# EAGLE library part HLE-108-02-L-DV-A (library Buchsenleiste - Samtec 8Pol)
Name des Bauteiles: -->SMD-Buchsenleiste 2 x 8polig Daten:RM 2,54 / von oben steckbar , Samtec: HLE - 108 - 02 - L - DV - A Artikelnummer:#135139 Datenblatt:www.alldatasheet.com __________________________________________ generated by Eagle Description Tool am : 07.02.2014 14:28:01 erstellt von: Hm
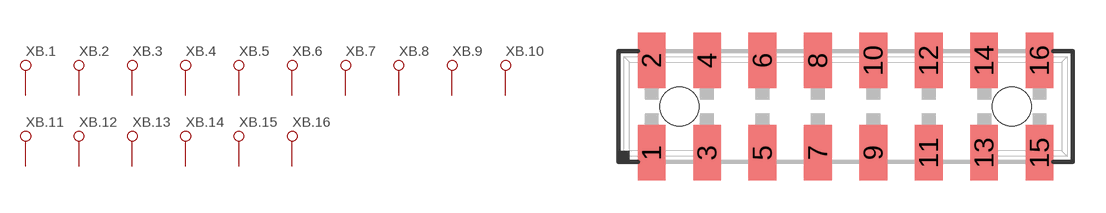
[diagram p0: symbol with the pads of HLE-108-02-L-DV-A; footprint HLE-108-02-L-DV-A]

Designator prefix XB; gates .1=1 .2=1 .3=1 .4=1 .5=1 .6=1 .7=1 .8=1 .9=1 .10=1 .11=1 .12=1 .13=1 .14=1 .15=1 .16=1

## HLE-108-02-L-DV-ASMD  [HLE-108-02-L-DV-A]
1  .1:.1
2  .2:.1
3  .3:.1
4  .4:.1
5  .5:.1
6  .6:.1
7  .7:.1
8  .8:.1
9  .9:.1
10  .10:.1
11  .11:.1
12  .12:.1
13  .13:.1
14  .14:.1
15  .15:.1
16  .16:.1

## Footprint HLE-108-02-L-DV-A (pad centres in mm)
smd 1.27 x 2.54: 1 -8.89,-2.121; 2 -8.89,2.121; 3 -6.35,-2.121; 4 -6.35,2.121; 5 -3.81,-2.121; 6 -3.81,2.121; 7 -1.27,-2.121; 8 -1.27,2.121; 9 1.27,-2.121; 10 1.27,2.121; 11 3.81,-2.121; 12 3.81,2.121; 13 6.35,-2.121; 14 6.35,2.121; 15 8.89,-2.121; 16 8.89,2.121
hole 1.8 at -7.62,0
hole 1.8 at 7.62,0